# Altium integrated library Maxim Passive Potentiometer.IntLib: 9 symbols
Pins are listed as number, name and electrical type; pins without a type are passive.

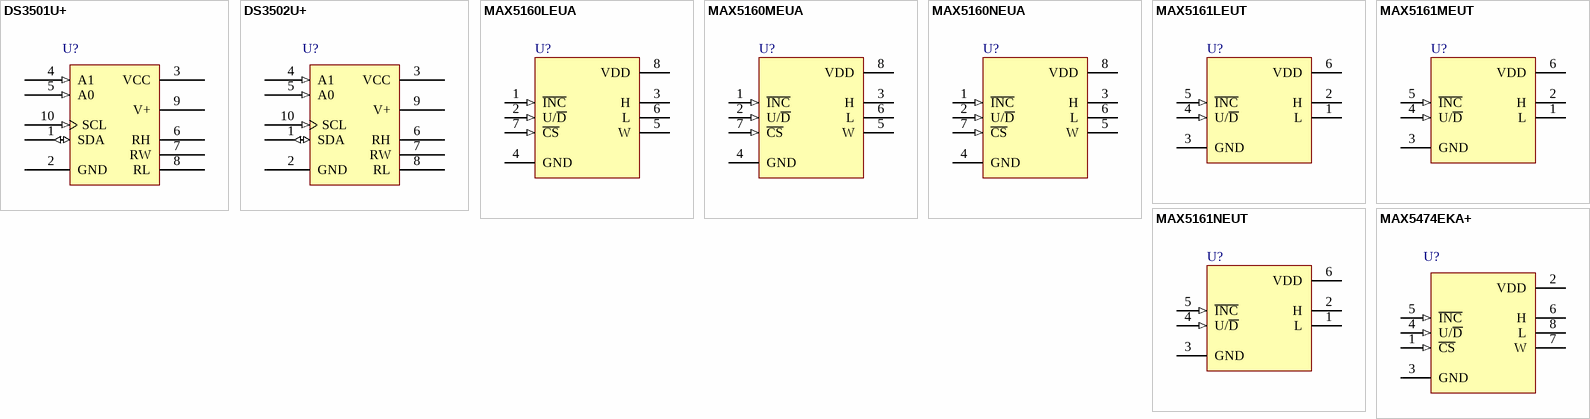
[diagram p0: symbols DS3501U+ to MAX5474EKA+]

## DS3501U+
designator U?
High-Voltage, NV, I2C Potentiometer with Temperature Sensor and Lookup Table; Published: 30-May-2008; DatasheetVersion: rev0, Jan-2007; PackageVersion: revJ, Oct-2007; PackageReference: 10uSOP; Publisher: Altium Limited; PackageDescription: 10-Pin Thin Shrink Small Outline Package 0.5 mm Pitch; Code_JEDEC: MO-187C-BA; ComponentLink1Description: Manufacturer Link; ComponentLink1URL: http://www.maxim-ic.com/; ComponentLink2Description: Datasheet; ComponentLink2URL: http://datasheets.maxim-ic.com/en/ds/DS3501.pdf
footprint 10uSOP_N (TSSOP, 10-Leads, Body 3x3mm, Pitch 0.5mm, IPC Medium Density)
footprint 10uSOP_L (TSSOP, 10-Leads, Body 3x3mm, Pitch 0.5mm, IPC High Density)
footprint 10uSOP_M (TSSOP, 10-Leads, Body 3x3mm, Pitch 0.5mm, IPC Low Density)
pins: 1 SDA (io), 2 GND (power), 3 VCC (power), 4 A1 (in), 5 A0 (in), 6 RH, 7 RW, 8 RL, 9 V+ (power), 10 SCL (in)

## DS3502U+
designator U?
High-Voltage, NV, I2C Potentiometer; Published: 30-May-2008; DatasheetVersion: rev0, Jan-2008; PackageVersion: revJ, Oct-2007; PackageReference: 10uSOP; Publisher: Altium Limited; PackageDescription: 10-Pin Thin Shrink Small Outline Package 0.5 mm Pitch; Code_JEDEC: MO-187C-BA; ComponentLink1Description: Manufacturer Link; ComponentLink1URL: http://www.maxim-ic.com/; ComponentLink2Description: Datasheet; ComponentLink2URL: http://datasheets.maxim-ic.com/en/ds/DS3502.pdf
footprint 10uSOP_N (TSSOP, 10-Leads, Body 3x3mm, Pitch 0.5mm, IPC Medium Density)
footprint 10uSOP_L (TSSOP, 10-Leads, Body 3x3mm, Pitch 0.5mm, IPC High Density)
footprint 10uSOP_M (TSSOP, 10-Leads, Body 3x3mm, Pitch 0.5mm, IPC Low Density)
pins: 1 SDA (io), 2 GND (power), 3 VCC (power), 4 A1 (in), 5 A0 (in), 6 RH, 7 RW, 8 RL, 9 V+ (power), 10 SCL (in)

## MAX5160LEUA
designator U?
Low-Power Digital Potentiometer; Published: 16-Jan-2001; LatestRevisionDate: 29-May-2009; LatestRevisionNote: IPC-7351 Footprint Added.; DatasheetVersion: Apr-1999; PackageReference: UMAX8; Publisher: Altium Limited; PackageDescription: 8-Pin Thin Small Outline Package 0.65 mm Pitch; ComponentLink1Description: Manufacturer Link; ComponentLink1URL: http://www.maxim-ic.com/; ComponentLink2Description: Datasheet; ComponentLink2URL: http://pdfserv.maxim-ic.com/en/ds/MAX5160-MAX5161.pdf
footprint UMAX8_N (TSOP, 8-Leads, Body 3x3mm, Pitch 0.65mm, IPC Medium Density)
footprint UMAX8_L (TSOP, 8-Leads, Body 3x3mm, Pitch 0.65mm, IPC High Density)
footprint UMAX8_M (TSOP, 8-Leads, Body 3x3mm, Pitch 0.65mm, IPC Low Density)
3D model UMAX8 (8-Pin Thin Small Outline Package 0.65 mm Pitch)
pins: 1 ~{INC} (in), 2 U/~{D} (in), 3 H, 4 GND (power), 5 W, 6 L, 7 ~{CS} (in), 8 VDD (power)

## MAX5160MEUA
designator U?
Low-Power Digital Potentiometer; Published: 16-Jan-2001; LatestRevisionDate: 29-May-2009; LatestRevisionNote: IPC-7351 Footprint Added.; DatasheetVersion: Apr-1999; PackageReference: UMAX8; Publisher: Altium Limited; PackageDescription: 8-Pin Thin Small Outline Package 0.65 mm Pitch; ComponentLink1Description: Manufacturer Link; ComponentLink1URL: http://www.maxim-ic.com/; ComponentLink2Description: Datasheet; ComponentLink2URL: http://pdfserv.maxim-ic.com/en/ds/MAX5160-MAX5161.pdf
footprint UMAX8_N (TSOP, 8-Leads, Body 3x3mm, Pitch 0.65mm, IPC Medium Density)
footprint UMAX8_L (TSOP, 8-Leads, Body 3x3mm, Pitch 0.65mm, IPC High Density)
footprint UMAX8_M (TSOP, 8-Leads, Body 3x3mm, Pitch 0.65mm, IPC Low Density)
3D model UMAX8 (8-Pin Thin Small Outline Package 0.65 mm Pitch)
pins: 1 ~{INC} (in), 2 U/~{D} (in), 3 H, 4 GND (power), 5 W, 6 L, 7 ~{CS} (in), 8 VDD (power)

## MAX5160NEUA
designator U?
Low-Power Digital Potentiometer; Published: 16-Jan-2001; LatestRevisionDate: 29-May-2009; LatestRevisionNote: IPC-7351 Footprint Added.; DatasheetVersion: Apr-1999; PackageReference: UMAX8; Publisher: Altium Limited; PackageDescription: 8-Pin Thin Small Outline Package 0.65 mm Pitch; ComponentLink1Description: Manufacturer Link; ComponentLink1URL: http://www.maxim-ic.com/; ComponentLink2Description: Datasheet; ComponentLink2URL: http://pdfserv.maxim-ic.com/en/ds/MAX5160-MAX5161.pdf
footprint UMAX8_N (TSOP, 8-Leads, Body 3x3mm, Pitch 0.65mm, IPC Medium Density)
footprint UMAX8_L (TSOP, 8-Leads, Body 3x3mm, Pitch 0.65mm, IPC High Density)
footprint UMAX8_M (TSOP, 8-Leads, Body 3x3mm, Pitch 0.65mm, IPC Low Density)
3D model UMAX8 (8-Pin Thin Small Outline Package 0.65 mm Pitch)
pins: 1 ~{INC} (in), 2 U/~{D} (in), 3 H, 4 GND (power), 5 W, 6 L, 7 ~{CS} (in), 8 VDD (power)

## MAX5161LEUT
designator U?
Low-Power Digital Potentiometer; Published: 16-Jan-2001; LatestRevisionDate: 29-May-2009; LatestRevisionNote: IPC-7351 Footprint Added.; DatasheetVersion: Apr-1999; PackageVersion: Aug-1998; PackageReference: SOT23-6; Publisher: Altium Limited; PackageDescription: 6-Pin SOT-23 Package 0.95 mm Pitch, 2.8 mm Lead Span; Code_IPC: SOT26A-6; ComponentLink1Description: Manufacturer Link; ComponentLink1URL: http://www.maxim-ic.com/; ComponentLink2Description: Datasheet; ComponentLink2URL: http://pdfserv.maxim-ic.com/en/ds/MAX5160-MAX5161.pdf
footprint SOT23-6_N (SOT23, 6-Leads, Body 2.9x1.6mm, Pitch 0.95mm, Lead Span 2.8mm, IPC Medium Density)
footprint SOT23-6_L (SOT23, 6-Leads, Body 2.9x1.6mm, Pitch 0.95mm, Lead Span 2.8mm, IPC High Density)
footprint SOT23-6_M (SOT23, 6-Leads, Body 2.9x1.6mm, Pitch 0.95mm, Lead Span 2.8mm, IPC Low Density)
pins: 1 L, 2 H, 3 GND (power), 4 U/~{D} (in), 5 ~{INC} (in), 6 VDD (power)

## MAX5161MEUT
designator U?
Low-Power Digital Potentiometer; Published: 16-Jan-2001; LatestRevisionDate: 29-May-2009; LatestRevisionNote: IPC-7351 Footprint Added.; DatasheetVersion: Apr-1999; PackageVersion: Aug-1998; PackageReference: SOT23-6; Publisher: Altium Limited; PackageDescription: 6-Pin SOT-23 Package 0.95 mm Pitch, 2.8 mm Lead Span; Code_IPC: SOT26A-6; ComponentLink1Description: Manufacturer Link; ComponentLink1URL: http://www.maxim-ic.com/; ComponentLink2Description: Datasheet; ComponentLink2URL: http://pdfserv.maxim-ic.com/en/ds/MAX5160-MAX5161.pdf
footprint SOT23-6_N (SOT23, 6-Leads, Body 2.9x1.6mm, Pitch 0.95mm, Lead Span 2.8mm, IPC Medium Density)
footprint SOT23-6_L (SOT23, 6-Leads, Body 2.9x1.6mm, Pitch 0.95mm, Lead Span 2.8mm, IPC High Density)
footprint SOT23-6_M (SOT23, 6-Leads, Body 2.9x1.6mm, Pitch 0.95mm, Lead Span 2.8mm, IPC Low Density)
pins: 1 L, 2 H, 3 GND (power), 4 U/~{D} (in), 5 ~{INC} (in), 6 VDD (power)

## MAX5161NEUT
designator U?
Low-Power Digital Potentiometer; Published: 16-Jan-2001; LatestRevisionDate: 29-May-2009; LatestRevisionNote: IPC-7351 Footprint Added.; DatasheetVersion: Apr-1999; PackageVersion: Aug-1998; PackageReference: SOT23-6; Publisher: Altium Limited; PackageDescription: 6-Pin SOT-23 Package 0.95 mm Pitch, 2.8 mm Lead Span; Code_IPC: SOT26A-6; ComponentLink1Description: Manufacturer Link; ComponentLink1URL: http://www.maxim-ic.com/; ComponentLink2Description: Datasheet; ComponentLink2URL: http://pdfserv.maxim-ic.com/en/ds/MAX5160-MAX5161.pdf
footprint SOT23-6_N (SOT23, 6-Leads, Body 2.9x1.6mm, Pitch 0.95mm, Lead Span 2.8mm, IPC Medium Density)
footprint SOT23-6_L (SOT23, 6-Leads, Body 2.9x1.6mm, Pitch 0.95mm, Lead Span 2.8mm, IPC High Density)
footprint SOT23-6_M (SOT23, 6-Leads, Body 2.9x1.6mm, Pitch 0.95mm, Lead Span 2.8mm, IPC Low Density)
pins: 1 L, 2 H, 3 GND (power), 4 U/~{D} (in), 5 ~{INC} (in), 6 VDD (power)

## MAX5474EKA+
designator U?
32-Tap, Nonvolatile, Linear-Taper Digital Potentiometer; Published: 30-May-2008; LatestRevisionDate: 16-Feb-2010; LatestRevisionNote: Sch Pinout fixed.; DatasheetVersion: rev1, Feb-2006; PackageVersion: revH; PackageReference: SOT23-8; Publisher: Altium Limited; PackageDescription: 8-Pin Small Outline Package 0.65 mm Pitch; Code_JEDEC: MO-178; ComponentLink1Description: Manufacturer Link; ComponentLink1URL: http://www.maxim-ic.com/; ComponentLink2Description: Datasheet; ComponentLink2URL: http://datasheets.maxim-ic.com/en/ds/MAX5471-MAX5475.pdf
footprint SOT23-8_N (SOP, 8-Leads, Body 2.9x1.6mm, Pitch 0.65mm, IPC Medium Density)
footprint SOT23-8_L (SOP, 8-Leads, Body 2.9x1.6mm, Pitch 0.65mm, IPC High Density)
footprint SOT23-8_M (SOP, 8-Leads, Body 2.9x1.6mm, Pitch 0.65mm, IPC Low Density)
pins: 1 ~{CS} (in), 2 VDD (power), 3 GND (power), 4 U/~{D} (in), 5 ~{INC} (in), 6 H, 7 W, 8 L